# EAGLE library part AUDIOAMP_PAM8302A (library CrickitCopy)
PAM8302A - 2.5W Class-D Mono Audio Amplifier MSOP8 = PAM8302AASCR
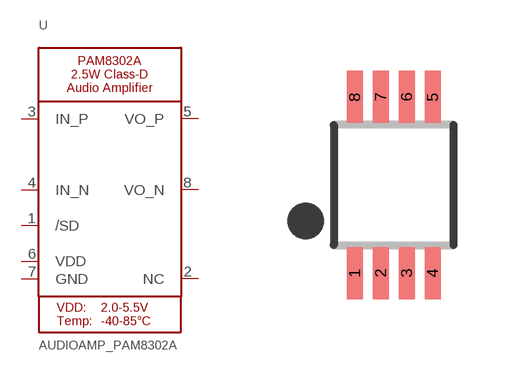
[diagram p1: symbol with the pads of MSOP8_0.65MM; footprint MSOP8_0.65MM]

Designator prefix U

## AUDIOAMP_PAM8302A  [MSOP8_0.65MM]
1  /SD  in
2  NC  nc
3  IN_P  in
4  IN_N  in
5  VO_P  out
6  VDD  pwr
7  GND  pwr
8  VO_N  out

## Footprint MSOP8_0.65MM (pad centres in mm)
Source: http://www.intersil.com/data/fn/fn7833.pdf
smd 0.4 x 1.3: 1 -0.975,-2.2; 2 -0.325,-2.2; 3 0.325,-2.2; 4 0.975,-2.2; 5 0.975,2.2; 6 0.325,2.2; 7 -0.325,2.2; 8 -0.975,2.2